# EAGLE library part 615008160421 (library Wurth_Connectors_WR-MJ)
WR-MJ Modular Jack THT Vertical Shielded 8P8C MATERIAL PROPERTIES Insulator Material PA9T Insulator Flammability Rating UL94 V-0 Insulator Color Black Contact Material Copper Alloy Contact Plating 6u' on contact plating Contact Type Stamped GENERAL INFORMATION Operating Temperature -40 up to +85 °C ELECTRICAL PROPERTIES Working Voltage 125 V (AC) Contact Resistance 35 mΩ RISO 1000 MΩ PACKAGING PROPERTIES Packaging Tray <https://katalog.we-online.com/media/images/v2/o161621v209%20Family_WR-MJTH_615008160421.jpg> Details see: https://katalog.we-online.com/en/em/MJ_THT_VERTICAL_SHIELDED_8P8C Created by Ella Wu 2019-11-05 2019(C) Wurth Elektronik
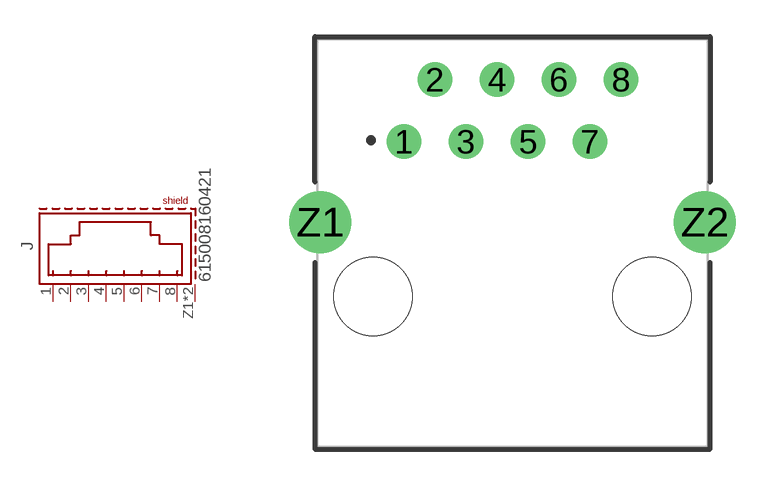
[diagram p34: symbol with the pads of 615008160421; footprint 615008160421]

Designator prefix J

## 615008160421 (DATASHEET-URL: https://www.we-online.com/redexpert/spec/615008160421?ae; MOUNT: THT; PART-NUMBER: 615008160421; TYPE: Vertical; VALUE: 615008160421; XPXC: 8P8C)  [615008160421]
1  8  pas
2  7  pas
3  6  pas
4  5  pas
5  4  pas
6  3  pas
7  2  pas
8  1  pas
Z1  SHIELD  pas
Z2  SHIELD  pas

## Footprint 615008160421 (pad centres in mm)
WR-MJ Modular Jack THT Vertical Shielded 8P8C,8Pins
drill 0.9: 1 -4.445,4.15; 2 -3.175,6.69; 3 -1.905,4.15; 4 -0.635,6.69; 5 0.635,4.15; 6 1.905,6.69; 7 3.175,4.15; 8 4.445,6.69
drill 1.7: Z1 -7.875,0.85; Z2 7.875,0.85
hole 3.2 at -5.715,-2.2
hole 3.2 at 5.715,-2.2